# EAGLE library part MAG3110 (library naut)
3-axis digital (I2C) magnetometer
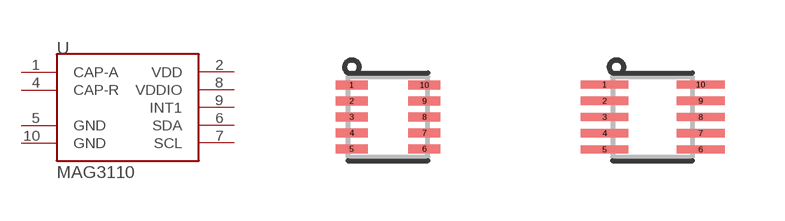
[diagram p1: symbol with the pads of DFN-10; footprints DFN-10, DFN-10-EXTRA]

Designator prefix U

## MAG3110S  [DFN-10]
1  CAP-A
2  VDD
4  CAP-R
5  GND
6  SDA
7  SCL
8  VDDIO
9  INT1
10  GND

## MAG3110L  [DFN-10-EXTRA]
Pads as for DFN-10

## Footprint DFN-10 (pad centres in mm)
10-pin DFN, 2mm x 2mm x 0.85mm
smd 0.8 x 0.22: 1 -0.91,0.8; 2 -0.91,0.4; 3 -0.91,0; 4 -0.91,-0.4; 5 -0.91,-0.8; 6 0.91,-0.8; 7 0.91,-0.4; 8 0.91,0; 9 0.91,0.4; 10 0.91,0.8

## Footprint DFN-10-EXTRA (pad centres in mm)
10-pin DFN, 2mm x 2mm x 0.85mm
smd 1.2 x 0.203: 1 -1.2,0.813; 2 -1.2,0.406; 3 -1.2,0; 4 -1.2,-0.406; 5 -1.2,-0.813; 6 1.2,-0.813; 7 1.2,-0.406; 8 1.2,0; 9 1.2,0.406; 10 1.2,0.813